# Altium schematic symbol library JST-XH TH 2.50mm 6-pos Straight.Schlib: 1 symbol
Pins are listed as number, name and electrical type; pins without a type are passive.

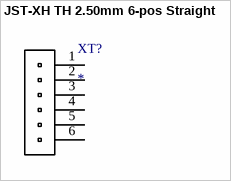
[diagram p0: symbol JST-XH TH 2.50mm 6-pos Straight]

## JST-XH TH 2.50mm 6-pos Straight
designator XT?
6 Header XH 0.098"(2.50mm) Male Pin Through Hole,P=2.5mm Wire To Board / Wire To Wire Connector ROHS; ComponentLink1Description: LCSC - B6B-XH-AM(LF)(SN); ComponentLink1URL: https://lcsc.com/product-detail/Wire-To-Board-Wire-To-Wire-Connector_JST-Sales-America-B6B-XH-AM-LF-SN_C161873.html; LCSC Part #: C161873; JLCPCB Part Type: Extended
footprint JST-XH TH 2.5mm 6-pos
pins: 1, 2, 3, 4, 5, 6